# EAGLE library part SP21060 (library analog-devices)
ANALOG DEVICES
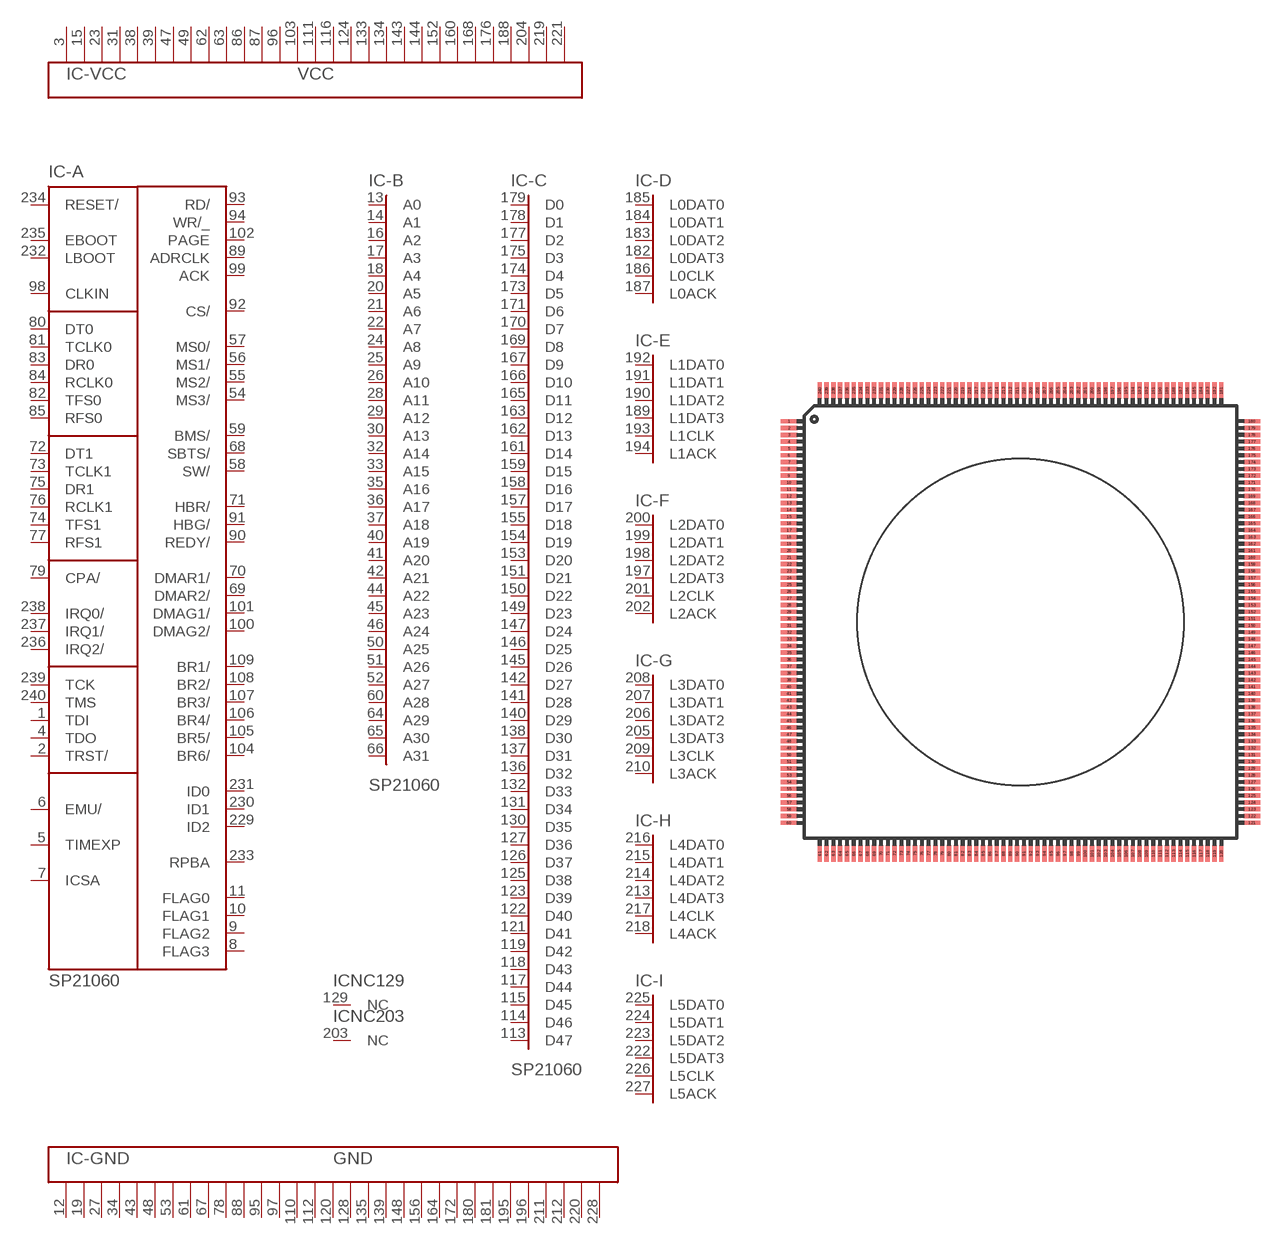
[diagram p116: symbol with the pads of PQFP240; footprint PQFP240]

Designator prefix IC; gates -A=SP21060C -B=A31 -C=D47 -D=L0 -E=L1 -F=L2 -G=L3 -H=L4 -I=L5 -VCC=VCC29 -GND=GND31 NC129=NC NC203=NC

## SP21060 (MPN: ADSP-21060KSZ-133; OC_FARNELL: 1438767; OC_NEWARK: 46M5216)  [PQFP240]
1  -A:TDI  in
2  -A:TRST/  in
3  -VCC:VCC  pwr
4  -A:TDO  out
5  -A:TIMEXP  out
6  -A:EMU/  out
7  -A:ICSA  out
8  -A:FLAG3
9  -A:FLAG2
10  -A:FLAG1
11  -A:FLAG0
12  -GND:GND  pwr
13  -B:A0
14  -B:A1
15  -VCC:VCC  pwr
16  -B:A2
17  -B:A3
18  -B:A4
19  -GND:GND  pwr
20  -B:A5
21  -B:A6
22  -B:A7
23  -VCC:VCC  pwr
24  -B:A8
25  -B:A9
26  -B:A10
27  -GND:GND  pwr
28  -B:A11
29  -B:A12
30  -B:A13
31  -VCC:VCC  pwr
32  -B:A14
33  -B:A15
34  -GND:GND  pwr
35  -B:A16
36  -B:A17
37  -B:A18
38  -VCC:VCC  pwr
39  -VCC:VCC  pwr
40  -B:A19
41  -B:A20
42  -B:A21
43  -GND:GND  pwr
44  -B:A22
45  -B:A23
46  -B:A24
47  -VCC:VCC  pwr
48  -GND:GND  pwr
49  -VCC:VCC  pwr
50  -B:A25
51  -B:A26
52  -B:A27
53  -GND:GND  pwr
54  -A:MS3/  hiz
55  -A:MS2/  hiz
56  -A:MS1/  hiz
57  -A:MS0/  hiz
58  -A:SW/  hiz
59  -A:BMS/
60  -B:A28
61  -GND:GND  pwr
62  -VCC:VCC  pwr
63  -VCC:VCC  pwr
64  -B:A29
65  -B:A30
66  -B:A31
67  -GND:GND  pwr
68  -A:SBTS/  in
69  -A:DMAR2/  in
70  -A:DMAR1/  in
71  -A:HBR/  in
72  -A:DT1  out
73  -A:TCLK1
74  -A:TFS1
75  -A:DR1  in
76  -A:RCLK1
77  -A:RFS1
78  -GND:GND  pwr
79  -A:CPA/
80  -A:DT0  out
81  -A:TCLK0
82  -A:TFS0
83  -A:DR0  in
84  -A:RCLK0
85  -A:RFS0
86  -VCC:VCC  pwr
87  -VCC:VCC  pwr
88  -GND:GND  pwr
89  -A:ADRCLK  hiz
90  -A:REDY/  out
91  -A:HBG/
92  -A:CS/  in
93  -A:RD/  hiz
94  -A:WR/_  hiz
95  -GND:GND  pwr
96  -VCC:VCC  pwr
97  -GND:GND  pwr
98  -A:CLKIN  in
99  -A:ACK
100  -A:DMAG2/  hiz
101  -A:DMAG1/  hiz
102  -A:PAGE  hiz
103  -VCC:VCC  pwr
104  -A:BR6/
105  -A:BR5/
106  -A:BR4/
107  -A:BR3/
108  -A:BR2/
109  -A:BR1/
110  -GND:GND  pwr
111  -VCC:VCC  pwr
112  -GND:GND  pwr
113  -C:D47
114  -C:D46
115  -C:D45
116  -VCC:VCC  pwr
117  -C:D44
118  -C:D43
119  -C:D42
120  -GND:GND  pwr
121  -C:D41
122  -C:D40
123  -C:D39
124  -VCC:VCC  pwr
125  -C:D38
126  -C:D37
127  -C:D36
128  -GND:GND  pwr
129  NC129:NC  nc
130  -C:D35
131  -C:D34
132  -C:D33
133  -VCC:VCC  pwr
134  -VCC:VCC  pwr
135  -GND:GND  pwr
136  -C:D32
137  -C:D31
138  -C:D30
139  -GND:GND  pwr
140  -C:D29
141  -C:D28
142  -C:D27
143  -VCC:VCC  pwr
144  -VCC:VCC  pwr
145  -C:D26
146  -C:D25
147  -C:D24
148  -GND:GND  pwr
149  -C:D23
150  -C:D22
151  -C:D21
152  -VCC:VCC  pwr
153  -C:D20
154  -C:D19
155  -C:D18
156  -GND:GND  pwr
157  -C:D17
158  -C:D16
159  -C:D15
160  -VCC:VCC  pwr
161  -C:D14
162  -C:D13
163  -C:D12
164  -GND:GND  pwr
165  -C:D11
166  -C:D10
167  -C:D9
168  -VCC:VCC  pwr
169  -C:D8
170  -C:D7
171  -C:D6
172  -GND:GND  pwr
173  -C:D5
174  -C:D4
175  -C:D3
176  -VCC:VCC  pwr
177  -C:D2
178  -C:D1
179  -C:D0
180  -GND:GND  pwr
181  -GND:GND  pwr
182  -D:L0DAT3
183  -D:L0DAT2
184  -D:L0DAT1
185  -D:L0DAT0
186  -D:L0CLK
187  -D:L0ACK
188  -VCC:VCC  pwr
189  -E:L1DAT3
190  -E:L1DAT2
191  -E:L1DAT1
192  -E:L1DAT0
193  -E:L1CLK
194  -E:L1ACK
195  -GND:GND  pwr
196  -GND:GND  pwr
197  -F:L2DAT3
198  -F:L2DAT2
199  -F:L2DAT1
200  -F:L2DAT0
201  -F:L2CLK
202  -F:L2ACK
203  NC203:NC  nc
204  -VCC:VCC  pwr
205  -G:L3DAT3
206  -G:L3DAT2
207  -G:L3DAT1
208  -G:L3DAT0
209  -G:L3CLK
210  -G:L3ACK
211  -GND:GND  pwr
212  -GND:GND  pwr
213  -H:L4DAT3
214  -H:L4DAT2
215  -H:L4DAT1
216  -H:L4DAT0
217  -H:L4CLK
218  -H:L4ACK
219  -VCC:VCC  pwr
220  -GND:GND  pwr
221  -VCC:VCC  pwr
222  -I:L5DAT3
223  -I:L5DAT2
224  -I:L5DAT1
225  -I:L5DAT0
226  -I:L5CLK
227  -I:L5ACK
228  -GND:GND  pwr
229  -A:ID2  in
230  -A:ID1  in
231  -A:ID0  in
232  -A:LBOOT  in
233  -A:RPBA  in
234  -A:RESET/  in
235  -A:EBOOT  in
236  -A:IRQ2/  in
237  -A:IRQ1/  in
238  -A:IRQ0/  in
239  -A:TCK  in
240  -A:TMS  in

## Footprint PQFP240 (pad centres in mm)
PLASTIC QUAD FLAT PACK
smd 1.2 x 0.32: 1 -17,14.75; 2 -17,14.25; 3 -17,13.75; 4 -17,13.25; 5 -17,12.75; 6 -17,12.25; 7 -17,11.75; 8 -17,11.25; 9 -17,10.75; 10 -17,10.25; 11 -17,9.75; 12 -17,9.25; 13 -17,8.75; 14 -17,8.25; 15 -17,7.75; 16 -17,7.25; 17 -17,6.75; 18 -17,6.25; 19 -17,5.75; 20 -17,5.25; 21 -17,4.75; 22 -17,4.25; 23 -17,3.75; 24 -17,3.25; 25 -17,2.75; 26 -17,2.25; 27 -17,1.75; 28 -17,1.25; 29 -17,0.75; 30 -17,0.25; 31 -17,-0.25; 32 -17,-0.75; 33 -17,-1.25; 34 -17,-1.75; 35 -17,-2.25; 36 -17,-2.75; 37 -17,-3.25; 38 -17,-3.75; 39 -17,-4.25; 40 -17,-4.75; 41 -17,-5.25; 42 -17,-5.75; 43 -17,-6.25; 44 -17,-6.75; 45 -17,-7.25; 46 -17,-7.75; 47 -17,-8.25; 48 -17,-8.75; 49 -17,-9.25; 50 -17,-9.75; 51 -17,-10.25; 52 -17,-10.75; 53 -17,-11.25; 54 -17,-11.75; 55 -17,-12.25; 56 -17,-12.75; 57 -17,-13.25; 58 -17,-13.75; 59 -17,-14.25; 60 -17,-14.75; 121 17,-14.75; 122 17,-14.25; 123 17,-13.75; 124 17,-13.25; 125 17,-12.75; 126 17,-12.25; 127 17,-11.75; 128 17,-11.25; 129 17,-10.75; 130 17,-10.25; 131 17,-9.75; 132 17,-9.25; 133 17,-8.75; 134 17,-8.25; 135 17,-7.75; 136 17,-7.25; 137 17,-6.75; 138 17,-6.25; 139 17,-5.75; 140 17,-5.25; 141 17,-4.75; 142 17,-4.25; 143 17,-3.75; 144 17,-3.25; 145 17,-2.75; 146 17,-2.25; 147 17,-1.75; 148 17,-1.25; 149 17,-0.75; 150 17,-0.25; 151 17,0.25; 152 17,0.75; 153 17,1.25; 154 17,1.75; 155 17,2.25; 156 17,2.75; 157 17,3.25; 158 17,3.75; 159 17,4.25; 160 17,4.75; 161 17,5.25; 162 17,5.75; 163 17,6.25; 164 17,6.75; 165 17,7.25; 166 17,7.75; 167 17,8.25; 168 17,8.75; 169 17,9.25; 170 17,9.75; 171 17,10.25; 172 17,10.75; 173 17,11.25; 174 17,11.75; 175 17,12.25; 176 17,12.75; 177 17,13.25; 178 17,13.75; 179 17,14.25; 180 17,14.75
smd 0.32 x 1.2: 61 -14.75,-17; 62 -14.25,-17; 63 -13.75,-17; 64 -13.25,-17; 65 -12.75,-17; 66 -12.25,-17; 67 -11.75,-17; 68 -11.25,-17; 69 -10.75,-17; 70 -10.25,-17; 71 -9.75,-17; 72 -9.25,-17; 73 -8.75,-17; 74 -8.25,-17; 75 -7.75,-17; 76 -7.25,-17; 77 -6.75,-17; 78 -6.25,-17; 79 -5.75,-17; 80 -5.25,-17; 81 -4.75,-17; 82 -4.25,-17; 83 -3.75,-17; 84 -3.25,-17; 85 -2.75,-17; 86 -2.25,-17; 87 -1.75,-17; 88 -1.25,-17; 89 -0.75,-17; 90 -0.25,-17; 91 0.25,-17; 92 0.75,-17; 93 1.25,-17; 94 1.75,-17; 95 2.25,-17; 96 2.75,-17; 97 3.25,-17; 98 3.75,-17; 99 4.25,-17; 100 4.75,-17; 101 5.25,-17; 102 5.75,-17; 103 6.25,-17; 104 6.75,-17; 105 7.25,-17; 106 7.75,-17; 107 8.25,-17; 108 8.75,-17; 109 9.25,-17; 110 9.75,-17; 111 10.25,-17; 112 10.75,-17; 113 11.25,-17; 114 11.75,-17; 115 12.25,-17; 116 12.75,-17; 117 13.25,-17; 118 13.75,-17; 119 14.25,-17; 120 14.75,-17; 181 14.75,17; 182 14.25,17; 183 13.75,17; 184 13.25,17; 185 12.75,17; 186 12.25,17; 187 11.75,17; 188 11.25,17; 189 10.75,17; 190 10.25,17; 191 9.75,17; 192 9.25,17; 193 8.75,17; 194 8.25,17; 195 7.75,17; 196 7.25,17; 197 6.75,17; 198 6.25,17; 199 5.75,17; 200 5.25,17; 201 4.75,17; 202 4.25,17; 203 3.75,17; 204 3.25,17; 205 2.75,17; 206 2.25,17; 207 1.75,17; 208 1.25,17; 209 0.75,17; 210 0.25,17; 211 -0.25,17; 212 -0.75,17; 213 -1.25,17; 214 -1.75,17; 215 -2.25,17; 216 -2.75,17; 217 -3.25,17; 218 -3.75,17; 219 -4.25,17; 220 -4.75,17; 221 -5.25,17; 222 -5.75,17; 223 -6.25,17; 224 -6.75,17; 225 -7.25,17; 226 -7.75,17; 227 -8.25,17; 228 -8.75,17; 229 -9.25,17; 230 -9.75,17; 231 -10.25,17; 232 -10.75,17; 233 -11.25,17; 234 -11.75,17; 235 -12.25,17; 236 -12.75,17; 237 -13.25,17; 238 -13.75,17; 239 -14.25,17; 240 -14.75,17